# Altium schematic symbol library CONN_2P.Schlib: 1 symbol
Pins are listed as number, name and electrical type; pins without a type are passive.

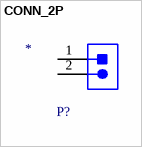
[diagram p0: symbol CONN_2P]

## CONN_2P
designator P?
Value: *
pins: 1, 2